# EAGLE library part P8X32A (library propeller)
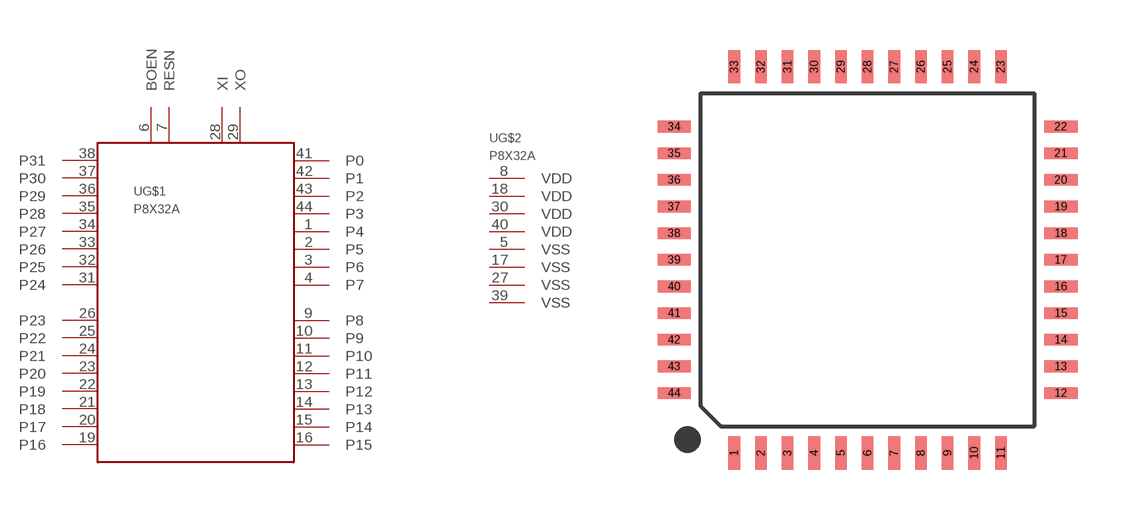
[diagram p0: symbol with the pads of LQFP-44; footprint LQFP-44]

Designator prefix -; gates G$1=P8X32A G$2=VDD-VSS

## P8X32A  [LQFP-44]
1  G$1:P4
2  G$1:P5
3  G$1:P6
4  G$1:P7
5  G$2:VSS  pwr
6  G$1:BOEN
7  G$1:RESN
8  G$2:VDD  pwr
9  G$1:P8
10  G$1:P9
11  G$1:P10
12  G$1:P11
13  G$1:P12
14  G$1:P13
15  G$1:P14
16  G$1:P15
17  G$2:VSS  pwr
18  G$2:VDD  pwr
19  G$1:P16
20  G$1:P17
21  G$1:P18
22  G$1:P19
23  G$1:P20
24  G$1:P21
25  G$1:P22
26  G$1:P23
27  G$2:VSS  pwr
28  G$1:XI
29  G$1:XO
30  G$2:VDD  pwr
31  G$1:P24
32  G$1:P25
33  G$1:P26
34  G$1:P27
35  G$1:P28
36  G$1:P29
37  G$1:P30
38  G$1:P31
39  G$2:VSS  pwr
40  G$2:VDD  pwr
41  G$1:P0
42  G$1:P1
43  G$1:P2
44  G$1:P3

## Footprint LQFP-44 (pad centres in mm)
smd 0.35 x 1: 1 -4,-5.8; 2 -3.2,-5.8; 3 -2.4,-5.8; 4 -1.6,-5.8; 5 -0.8,-5.8; 6 0,-5.8; 7 0.8,-5.8; 8 1.6,-5.8; 9 2.4,-5.8; 10 3.2,-5.8; 11 4,-5.8; 23 4,5.8; 24 3.2,5.8; 25 2.4,5.8; 26 1.6,5.8; 27 0.8,5.8; 28 0,5.8; 29 -0.8,5.8; 30 -1.6,5.8; 31 -2.4,5.8; 32 -3.2,5.8; 33 -4,5.8
smd 1 x 0.35: 12 5.8,-4; 13 5.8,-3.2; 14 5.8,-2.4; 15 5.8,-1.6; 16 5.8,-0.8; 17 5.8,0; 18 5.8,0.8; 19 5.8,1.6; 20 5.8,2.4; 21 5.8,3.2; 22 5.8,4; 34 -5.8,4; 35 -5.8,3.2; 36 -5.8,2.4; 37 -5.8,1.6; 38 -5.8,0.8; 39 -5.8,0; 40 -5.8,-0.8; 41 -5.8,-1.6; 42 -5.8,-2.4; 43 -5.8,-3.2; 44 -5.8,-4